# Altium schematic symbol library ISL28005FH20Z-T7.SchLib: 1 symbol
Pins are listed as number, name and electrical type; pins without a type are passive.

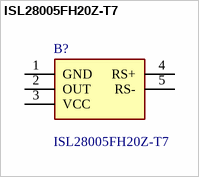
[diagram p0: symbol ISL28005FH20Z-T7]

## ISL28005FH20Z-T7
designator B?
The ISL28005 is a micropower, uni-directional high-side and low-side current sense amplifier featuring a proprietary rail-to-rail input current sensing amplifier. The ISL28005 is ideal for high-side current sense applications where the sense voltage is usually much higher than the amplifier supply voltage. The device can be used to sense voltages as high as 28V when operating from a supply voltage as low as 2. 7V. The micropower ISL28005 consumes only 50A of supply current when operating from a 2. 7V to 28; Manufacturer_Name: Renesas Electronics; Geometry.Height: 1.45mm; Manufacturer_Part_Number: ISL28005FH20Z-T7; Mouser Part Number: 968-ISL28005FH20Z-T7; Mouser Price/Stock: https://www.mouser.com/Search/Refine.aspx?Keyword=968-ISL28005FH20Z-T7; Arrow Part Number: *; Arrow Price/Stock: *; Datasheet Link: https://www.renesas.com/en-us/www/doc/datasheet/isl28005.pdf
footprint SOT95P280X145-5N
pins: 1 GND, 2 OUT, 3 VCC, 4 RS+, 5 RS-